# Altium footprint library Single In-Line with no Mounting Hole.PcbLib: 17 footprints (part 1 of 2)
Each footprint in its own frame and in the unit in brackets; x right, y up, seen from the top. Pads: shape width x height; smd on the part's side, far side on the other; paste and mask are expansions set on the pad; w line width, h text height; cw(c..) or ccw(c..) is an arc to the next point about the centre after c.
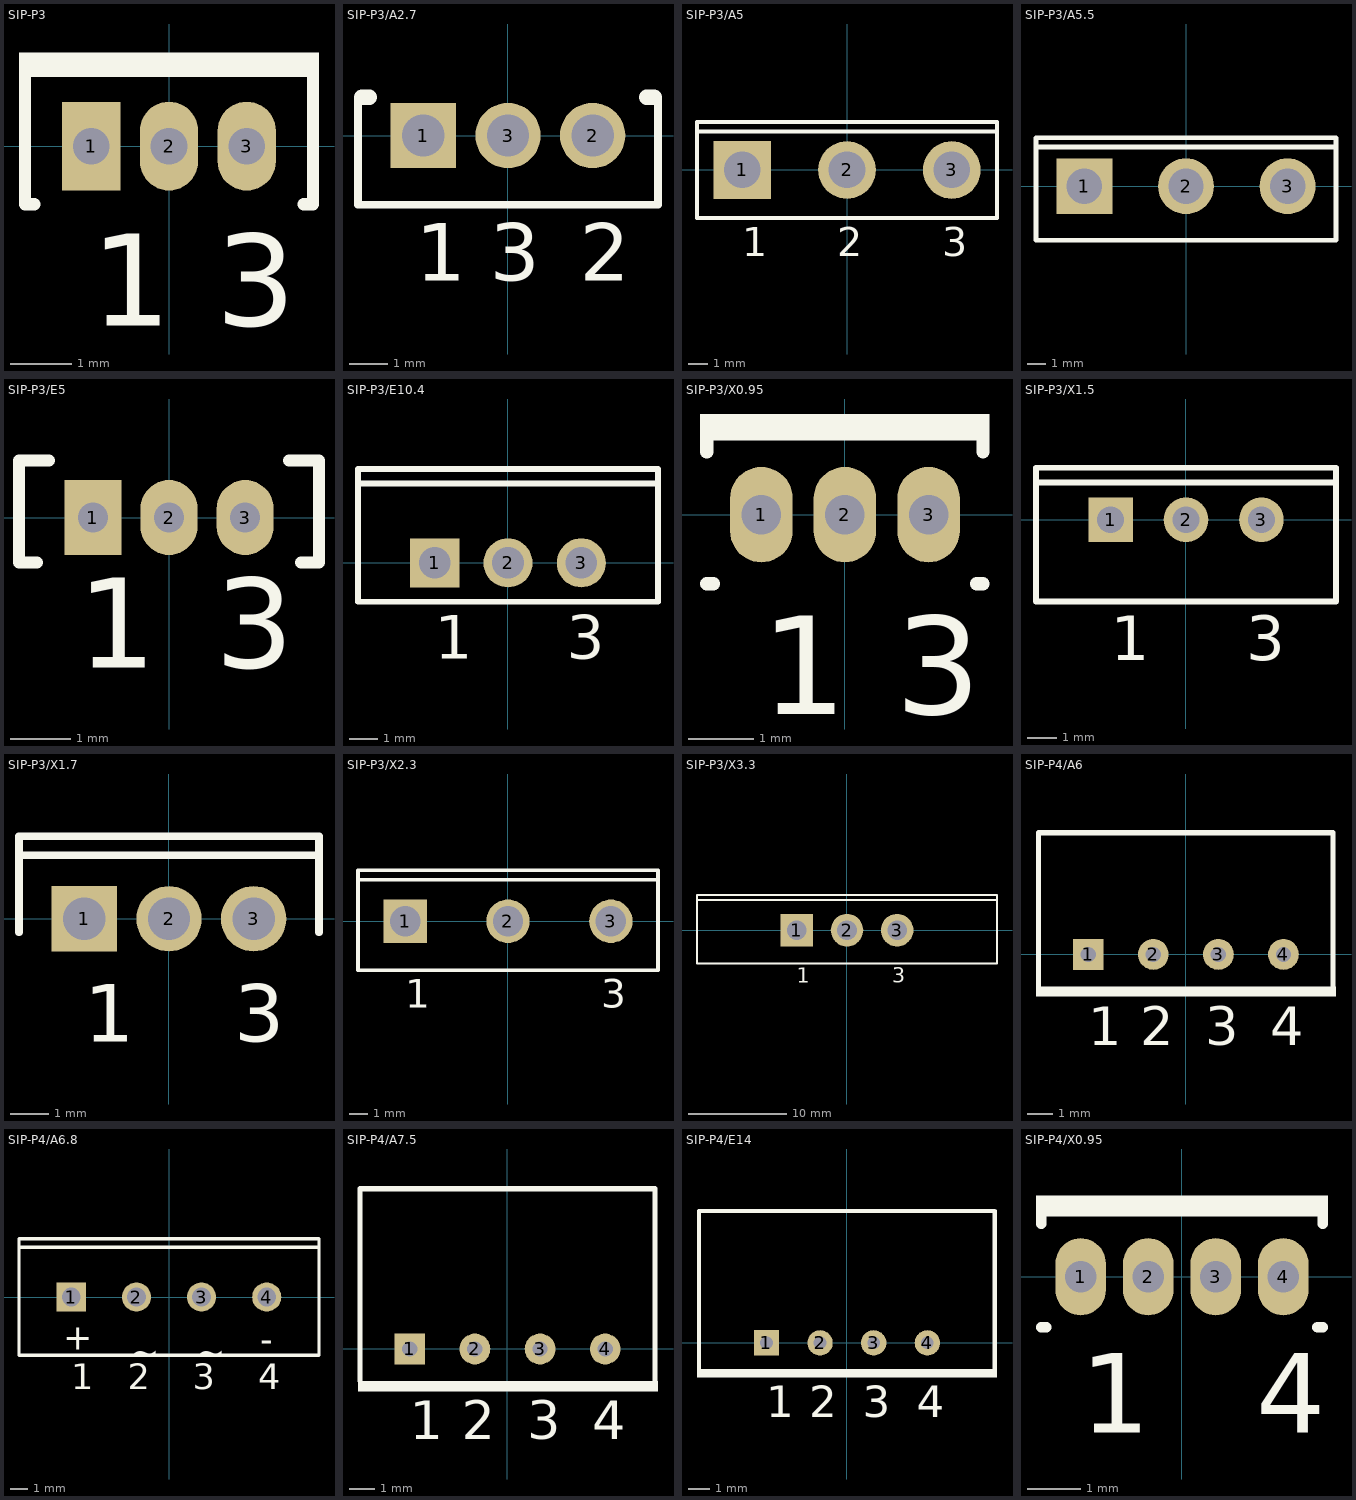
[diagram p0: the footprints below, top view; thin cyan lines are the x and y axes]

## SIP-P3 [mm] "SIP; 3 Leads; Body 4.5 x 4.6 x 1.6 mm (typ); Pitch 1.27 mm"
height 6.7
pads (3):
  rect 0.95x1.45 hole 0.6: 1(-1.27,0)
  oval 0.95x1.45 hole 0.6: 2(0,0) 3(1.27,0)
Top Overlay:
  rectangle: -2.45,1.13 2.45,1.53
  lines w0.2: -2.35,1.13 -2.35,-0.95 -2.2,-0.95 ; 2.2,-0.95 2.35,-0.95 2.35,1.13
  text "1" at -1.27,-2.93 h1.5
  text "3" at 0.762,-2.93 h1.5

## SIP-P3/A2.7 [mm] "SIP; 3 Leads; Body 10.9 x 7.6 x 2.6 mm (typ); Pitch 2.2 mm"
height 11.3
pads (3):
  rect 1.7x1.7 hole 1.1: 1(-2.2,0)
  round 1.7 hole 1.1: 2(2.2,0) 3(0,0)
Top Overlay:
  lines w0.2: -3.9,1 -3.9,-1.8 3.9,-1.8 3.9,1
  lines w0.4: -3.8,1 -3.6,1 ; 3.6,1 3.8,1
  text "3" at -0.47,-3.78 h1.5
  text "1" at -2.4,-3.78 h1.5
  text "2" at 1.86,-3.78 h1.5

## SIP-P3/A5 [mm] "SIP; 3 Leads; Body 20.3 x 15.6 x 5 mm (typ); Pitch 5.45 mm"
height 23.9
pads (3):
  rect 3x3 hole 1.9: 1(-5.45,0)
  round 3 hole 1.9: 2(0,0) 3(5.45,0)
Top Overlay:
  lines w0.2: -7.8,2 7.8,2 ; -7.8,-2.5 -7.8,2.5 7.8,2.5 7.8,-2.5 -7.8,-2.5
  text "3" at 4.942,-4.48 h1.5
  text "2" at -0.508,-4.48 h1.5
  text "1" at -5.45,-4.48 h1.5

## SIP-P3/A5.5 [mm] "SIP; 3 Leads; Body 20.3 x 15.6 x 5 mm (typ); Pitch 5.45 mm"
height 25.1
pads (3):
  rect 3x3 hole 1.9: 1(-5.45,0)
  round 3 hole 1.9: 2(0,0) 3(5.45,0)
Top Overlay:
  lines w0.254: -8.05,2.1 8.05,2.1 ; -8.05,-2.9 -8.05,2.6 8.05,2.6 8.05,-2.9 -8.05,-2.9

## SIP-P3/E5 [mm] "SIP; 3 Leads; Body 4.6 x 4.6 x 1.6 mm (typ); Pitch 1.27 mm"
height 5
pads (3):
  rect 0.95x1.25 hole 0.5: 1(-1.27,0)
  oval 0.95x1.25 hole 0.5: 2(0,0) 3(1.27,0)
Top Overlay:
  lines w0.2: -2.2,-0.75 -2.5,-0.75 -2.5,0.95 -2,0.95 ; 2,0.95 2.5,0.95 2.5,-0.75 2.2,-0.75
  text "3" at 0.77,-2.5 h1.5
  text "1" at -1.52,-2.5 h1.5

## SIP-P3/E10.4 [mm] "SIP; 3 Leads; Body 16 x 10.2 x 4.5 mm (typ); Pitch 2.54 mm"
height 19.7
pads (3):
  rect 1.7x1.7 hole 1.1: 1(-2.54,0)
  round 1.7 hole 1.1: 2(0,0) 3(2.54,0)
Top Overlay:
  lines w0.2: -5.2,2.75 5.2,2.75 ; -5.2,-1.35 5.2,-1.35 5.2,3.25 -5.2,3.25 -5.2,-1.35
  text "1" at -2.54,-3.33 h1.5
  text "3" at 2.032,-3.33 h1.5

## SIP-P3/X0.95 [mm] "SIP; 3 Leads; Body 3 x 4 x 1.5 mm (typ); Pitch 1.27 mm"
height 5.2
pads (3):
  oval 0.95x1.45 hole 0.6: 1(-1.27,0) 2(0,0) 3(1.27,0)
Top Overlay:
  rectangle: -2.1,1.13 2.1,1.13
  rectangle: -2.2,1.13 2.2,1.53
  lines w0.2: -2.1,-1.05 -2,-1.05 ; -2.1,0.95 -2.1,1.13 ; 2,-1.05 2.1,-1.05 ; 2.1,0.95 2.1,1.13
  text "3" at 0.762,-3.03 h1.5
  text "1" at -1.27,-3.03 h1.5

## SIP-P3/X1.5 [mm] "SIP; 3 Leads; Body 7.3 x 10 x 4.5 mm (typ); Pitch 2.54 mm"
height 8.8
pads (3):
  rect 1.5x1.5 hole 0.9: 1(-2.54,0)
  round 1.5 hole 0.9: 2(0,0) 3(2.54,0)
Top Overlay:
  lines w0.2: -5.05,1.25 5.05,1.25 ; -5.05,-2.75 5.05,-2.75 5.05,1.75 -5.05,1.75 -5.05,-2.75
  text "1" at -2.54,-4.73 h1.5
  text "3" at 2.032,-4.73 h1.5

## SIP-P3/X1.7 [mm] "SIP; 3 Leads; Body 10.9 x 7.6 x 2.4 mm (typ); Pitch 2.2 mm"
height 13.9
pads (3):
  rect 1.7x1.7 hole 1.1: 1(-2.2,0)
  round 1.7 hole 1.1: 2(0,0) 3(2.2,0)
Top Overlay:
  lines w0.2: -3.9,-0.35 -3.9,2.15 3.9,2.15 3.9,-0.35 ; -3.9,1.65 3.9,1.65
  text "1" at -2.2,-3.2 h1.5
  text "3" at 1.7,-3.2 h1.5

## SIP-P3/X2.3 [mm] "SIP; 3 Leads; Body 20 x 15.6 x 5 mm (typ); Pitch 5.45 mm"
height 24.6
pads (3):
  rect 2.3x2.3 hole 1.6: 1(-5.45,0)
  round 2.3 hole 1.6: 2(0,0) 3(5.45,0)
Top Overlay:
  lines w0.2: -7.95,2.2 7.95,2.2 ; -7.95,-2.6 -7.95,2.7 7.95,2.7 7.95,-2.6 -7.95,-2.6
  text "3" at 4.942,-4.58 h1.5
  text "1" at -5.45,-4.58 h1.5

## SIP-P3/X3.3 [mm] "SIP; 3 Leads; Body 13.7 x 30.2 x 6.5 mm (typ); Pitch 5.08 mm"
height 14
pads (3):
  rect 3.3x3.3 hole 2: 1(-5.08,0)
  round 3.3 hole 2: 2(0,0) 3(5.08,0)
Top Overlay:
  lines w0.2: -15.2,3.05 15.2,3.05 ; -15.2,-3.35 -15.2,3.55 15.2,3.55 15.2,-3.35 -15.2,-3.35
  text "3" at 4.572,-5.33 h1.5
  text "1" at -5.08,-5.33 h1.5

## SIP-P4/A6 [mm] "SIP; 4 Leads; Body 10 x 11.5 x 6 mm (typ); Pitch 2.54 mm"
height 10.6
pads (4):
  rect 1.2x1.2 hole 0.6: 1(-3.81,0)
  round 1.2 hole 0.6: 2(-1.27,0) 3(1.27,0) 4(3.81,0)
Top Overlay:
  rectangle: -5.85,-1.65 5.86,-1.25
  lines w0.2: -5.75,-1.25 -5.75,4.75 5.75,4.75 5.75,-1.25
  text "1" at -3.81,-3.544 h1.5
  text "2" at -1.778,-3.544 h1.5
  text "3" at 0.762,-3.544 h1.5
  text "4" at 3.302,-3.544 h1.5

## SIP-P4/A6.8 [mm] "SIP; 4 Leads; Body 15 x 17.5 x 6.8 mm (typ); Pitch 3.8 mm"
height 15
pads (4):
  rect 1.7x1.7 hole 1.1: 1(-5.7,0)
  round 1.7 hole 1.1: 2(-1.9,0) 3(1.9,0) 4(5.7,0)
Top Overlay:
  lines w0.2: -8.75,2.9 8.75,2.9 ; -8.75,-3.4 8.75,-3.4 8.75,3.4 -8.75,3.4 -8.75,-3.4
  text "-" at 5.32,-3.19 h1.5
  text "+" at -6.18,-3.08 h1.5
  text "~" at 1.6,-3.94 h1.5
  text "~" at -2.27,-3.94 h1.5
  text "1" at -5.7,-5.38 h1.5
  text "2" at -2.408,-5.38 h1.5
  text "3" at 1.392,-5.38 h1.5
  text "4" at 5.192,-5.38 h1.5

## SIP-P4/A7.5 [mm] "SIP; 4 Leads; Body 10 x 11.5 x 7.5 mm (typ); Pitch 2.54 mm"
height 10.6
pads (4):
  rect 1.2x1.2 hole 0.6: 1(-3.81,0)
  round 1.2 hole 0.6: 2(-1.27,0) 3(1.27,0) 4(3.81,0)
Top Overlay:
  rectangle: -5.83,-1.65 5.87,-1.25
  lines w0.2: -5.75,-1.25 -5.75,6.25 5.75,6.25 5.75,-1.25
  text "1" at -3.81,-3.52 h1.5
  text "2" at -1.778,-3.52 h1.5
  text "3" at 0.762,-3.52 h1.5
  text "4" at 3.302,-3.52 h1.5

## SIP-P4/E14 [mm] "SIP; 4 Leads; Body 10 x 14 x 7.5 mm (typ); Pitch 2.54 mm"
height 10.6
pads (4):
  rect 1.2x1.2 hole 0.6: 1(-3.81,0)
  round 1.2 hole 0.6: 2(-1.27,0) 3(1.27,0) 4(3.81,0)
Top Overlay:
  rectangle: -7.1,-1.65 7.11,-1.25
  lines w0.2: -7,-1.25 -7,6.25 7,6.25 7,-1.25
  text "1" at -3.81,-3.52 h1.5
  text "2" at -1.778,-3.52 h1.5
  text "3" at 0.762,-3.52 h1.5
  text "4" at 3.302,-3.52 h1.5

## SIP-P4/X0.95 [mm] "SIP; 4 Leads; Body 3.4 x 5.2 x 1.6 mm (typ); Pitch 1.27 mm"
height 5.4
pads (4):
  oval 0.95x1.45 hole 0.6: 1(-1.905,0) 2(-0.635,0) 3(0.635,0) 4(1.905,0)
Top Overlay:
  rectangle: -2.746,1.13 2.748,1.53
  lines w0.2: -2.65,-0.95 -2.55,-0.95 ; -2.65,1 -2.65,1.13 ; 2.55,-0.95 2.65,-0.95 ; 2.65,1 2.65,1.13
  text "1" at -1.905,-2.93 h1.5
  text "4" at 1.397,-2.93 h1.5